# Altium schematic symbol library SOT.SchLib: 34 symbols
Pins are listed as number, name and electrical type; pins without a type are passive.

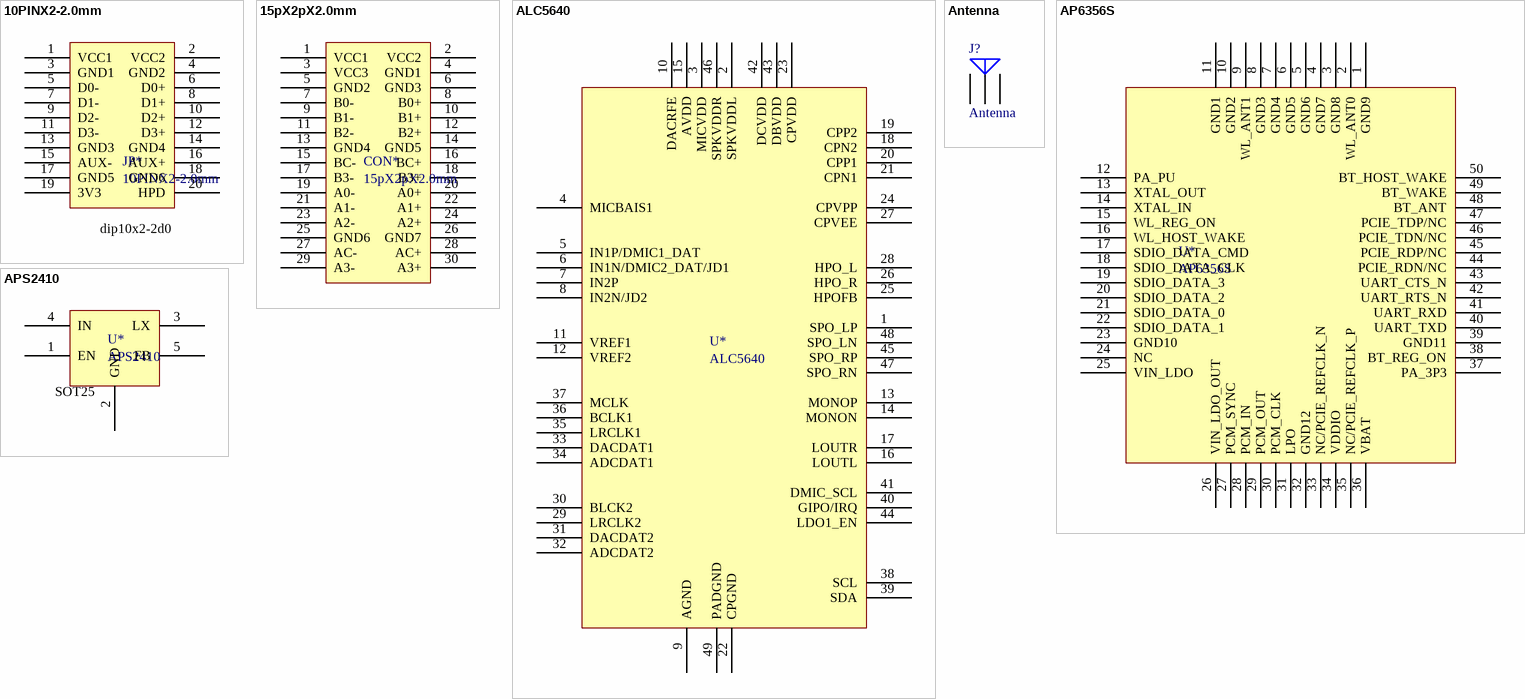
[diagram p0: symbols 10PINX2-2.0mm to APS2410]

## 10PINX2-2.0mm
designator JP*
pins: 1 VCC1, 2 VCC2, 3 GND1, 4 GND2, 5 D0-, 6 D0+, 7 D1-, 8 D1+, 9 D2-, 10 D2+, 11 D3-, 12 D3+, 13 GND3, 14 GND4, 15 AUX-, 16 AUX+, 17 GND5, 18 GND6, 19 3V3, 20 HPD
text: dip10x2-2d0

## 15pX2pX2.0mm
designator CON*
pins: 1 VCC1, 2 VCC2, 3 VCC3, 4 GND1, 5 GND2, 6 GND3, 7 B0-, 8 B0+, 9 B1-, 10 B1+, 11 B2-, 12 B2+, 13 GND4, 14 GND5, 15 BC-, 16 BC+, 17 B3-, 18 B3+, 19 A0-, 20 A0+, 21 A1-, 22 A1+, 23 A2-, 24 A2+, 25 GND6, 26 GND7, 27 AC-, 28 AC+, 29 A3-, 30 A3+

## ALC5640
designator U*
pins: 1 SPO_LP, 2 SPKVDDL, 3 MICVDD, 4 MICBAIS1, 5 IN1P/DMIC1_DAT, 6 IN1N/DMIC2_DAT/JD1, 7 IN2P, 8 IN2N/JD2, 9 AGND, 10 DACRFE, 11 VREF1, 12 VREF2, 13 MONOP, 14 MONON, 15 AVDD, 16 LOUTL, 17 LOUTR, 18 CPN2, 19 CPP2, 20 CPP1, 21 CPN1, 22 CPGND, 23 CPVDD, 24 CPVPP, 25 HPOFB, 26 HPO_R, 27 CPVEE, 28 HPO_L, 29 LRCLK2, 30 BLCK2, 31 DACDAT2, 32 ADCDAT2, 33 DACDAT1, 34 ADCDAT1, 35 LRCLK1, 36 BCLK1, 37 MCLK, 38 SCL, 39 SDA, 40 GIPO/IRQ, 41 DMIC_SCL, 42 DCVDD, 43 DBVDD, 44 LDO1_EN, 45 SPO_RP, 46 SPKVDDR, 47 SPO_RN, 48 SPO_LN, 49 PADGND
1 alternate drawing of the same symbol

## Antenna
designator J?
Generic Antenna; Published: 24-Mar-1999; LatestRevisionDate: 17-Jul-2002; LatestRevisionNote: Re-released for DXP Platform.; PackageReference: PIN1; Publisher: Altium Limited
footprint PIN1 (Generic Antenna; 1 Lead)
pins: 1 A, 2, 3

## AP6356S
designator U*
pins: 1 GND9, 2 WL_ANT0, 3 GND8, 4 GND7, 5 GND6, 6 GND5, 7 GND4, 8 GND3, 9 WL_ANT1, 10 GND2, 11 GND1, 12 PA_PU, 13 XTAL_OUT, 14 XTAL_IN, 15 WL_REG_ON, 16 WL_HOST_WAKE, 17 SDIO_DATA_CMD, 18 SDIO_DATA_CLK, 19 SDIO_DATA_3, 20 SDIO_DATA_2, 21 SDIO_DATA_0, 22 SDIO_DATA_1, 23 GND10, 24 NC, 25 VIN_LDO, 26 VIN_LDO_OUT, 27 PCM_SYNC, 28 PCM_IN, 29 PCM_OUT, 30 PCM_CLK, 31 LPO, 32 GND12, 33 NC/PCIE_REFCLK_N, 34 VDDIO, 35 NC/PCIE_REFCLK_P, 36 VBAT, 37 PA_3P3, 38 BT_REG_ON, 39 GND11, 40 UART_TXD, 41 UART_RXD, 42 UART_RTS_N, 43 UART_CTS_N, 44 PCIE_RDN/NC, 45 PCIE_RDP/NC, 46 PCIE_TDN/NC, 47 PCIE_TDP/NC, 48 BT_ANT, 49 BT_WAKE, 50 BT_HOST_WAKE

## APS2410
designator U*  Package: SOT25
pins: 1 EN, 2 GND, 3 LX, 4 IN, 5 FB

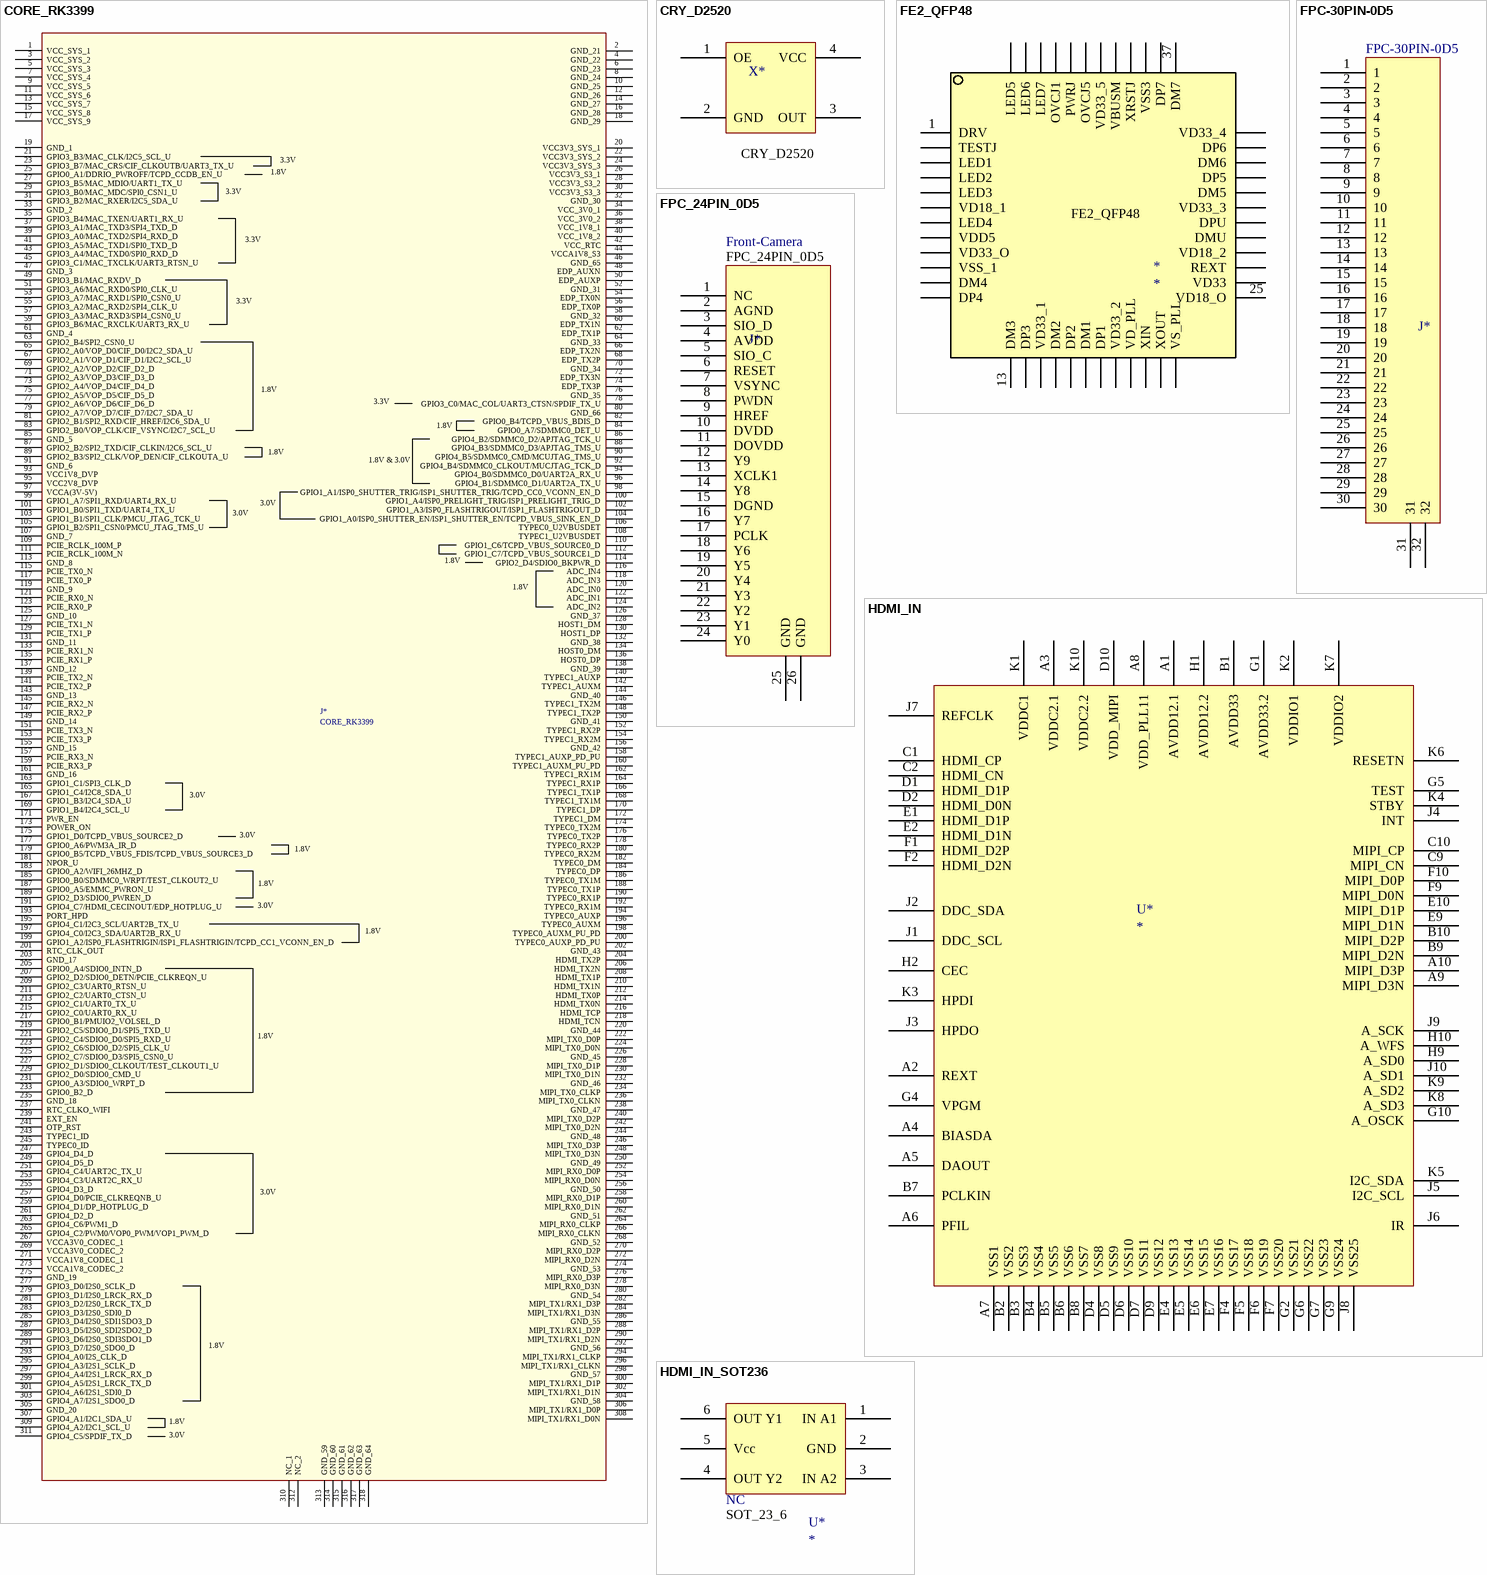
[diagram p1: symbols CORE_RK3399 to HDMI_IN_SOT236]

## CORE_RK3399
designator J*
Package: AS0B821-S78B-7H_
pins: 1 VCC_SYS_1, 2 GND_21, 3 VCC_SYS_2, 4 GND_22, 5 VCC_SYS_3, 6 GND_23, 7 VCC_SYS_4, 8 GND_24, 9 VCC_SYS_5, 10 GND_25, 11 VCC_SYS_6, 12 GND_26, 13 VCC_SYS_7, 14 GND_27, 15 VCC_SYS_8, 16 GND_28, 17 VCC_SYS_9, 18 GND_29, 19 GND_1, 20 VCC3V3_SYS_1, 21 GPIO3_B3/MAC_CLK/I2C5_SCL_U, 22 VCC3V3_SYS_2, 23 GPIO3_B7/MAC_CRS/CIF_CLKOUTB/UART3_TX_U, 24 VCC3V3_SYS_3, 25 GPIO0_A1/DDRIO_PWROFF/TCPD_CCDB_EN_U, 26 VCC3V3_S3_1, 27 GPIO3_B5/MAC_MDIO/UART1_TX_U, 28 VCC3V3_S3_2, 29 GPIO3_B0/MAC_MDC/SPI0_CSN1_U, 30 VCC3V3_S3_3, 31 GPIO3_B2/MAC_RXER/I2C5_SDA_U, 32 GND_30, 33 GND_2, 34 VCC_3V0_1, 35 GPIO3_B4/MAC_TXEN/UART1_RX_U, 36 VCC_3V0_2, 37 GPIO3_A1/MAC_TXD3/SPI4_TXD_D, 38 VCC_1V8_1, 39 GPIO3_A0/MAC_TXD2/SPI4_RXD_D, 40 VCC_1V8_2, 41 GPIO3_A5/MAC_TXD1/SPI0_TXD_D, 42 VCC_RTC, 43 GPIO3_A4/MAC_TXD0/SPI0_RXD_D, 44 VCCA1V8_S3, 45 GPIO3_C1/MAC_TXCLK/UART3_RTSN_U, 46 GND_65, 47 GND_3, 48 EDP_AUXN, 49 GPIO3_B1/MAC_RXDV_D, 50 EDP_AUXP, 51 GPIO3_A6/MAC_RXD0/SPI0_CLK_U, 52 GND_31, 53 GPIO3_A7/MAC_RXD1/SPI0_CSN0_U, 54 EDP_TX0N, 55 GPIO3_A2/MAC_RXD2/SPI4_CLK_U, 56 EDP_TX0P, 57 GPIO3_A3/MAC_RXD3/SPI4_CSN0_U, 58 GND_32, 59 GPIO3_B6/MAC_RXCLK/UART3_RX_U, 60 EDP_TX1N, 61 GND_4, 62 EDP_TX1P, 63 GPIO2_B4/SPI2_CSN0_U, 64 GND_33, 65 GPIO2_A0/VOP_D0/CIF_D0/I2C2_SDA_U, 66 EDP_TX2N, 67 GPIO2_A1/VOP_D1/CIF_D1/I2C2_SCL_U, 68 EDP_TX2P, 69 GPIO2_A2/VOP_D2/CIF_D2_D, 70 GND_34, 71 GPIO2_A3/VOP_D3/CIF_D3_D, 72 EDP_TX3N, 73 GPIO2_A4/VOP_D4/CIF_D4_D, 74 EDP_TX3P, 75 GPIO2_A5/VOP_D5/CIF_D5_D, 76 GND_35, 77 GPIO2_A6/VOP_D6/CIF_D6_D, 78 GPIO3_C0/MAC_COL/UART3_CTSN/SPDIF_TX_U, 79 GPIO2_A7/VOP_D7/CIF_D7/I2C7_SDA_U, 80 GND_66, 81 GPIO2_B1/SPI2_RXD/CIF_HREF/I2C6_SDA_U, 82 GPIO0_B4/TCPD_VBUS_BDIS_D, 83 GPIO2_B0/VOP_CLK/CIF_VSYNC/I2C7_SCL_U, 84 GPIO0_A7/SDMMC0_DET_U, 85 GND_5, 86 GPIO4_B2/SDMMC0_D2/APJTAG_TCK_U, 87 GPIO2_B2/SPI2_TXD/CIF_CLKIN/I2C6_SCL_U, 88 GPIO4_B3/SDMMC0_D3/APJTAG_TMS_U, 89 GPIO2_B3/SPI2_CLK/VOP_DEN/CIF_CLKOUTA_U, 90 GPIO4_B5/SDMMC0_CMD/MCUJTAG_TMS_U, 91 GND_6, 92 GPIO4_B4/SDMMC0_CLKOUT/MUCJTAG_TCK_D, 93 VCC1V8_DVP, 94 GPIO4_B0/SDMMC0_D0/UART2A_RX_U, 95 VCC2V8_DVP, 96 GPIO4_B1/SDMMC0_D1/UART2A_TX_U, 97 VCCA(3V-5V), 98 GPIO1_A1/ISP0_SHUTTER_TRIG/ISP1_SHUTTER_TRIG/TCPD_CC0_VCONN_EN_D, 99 GPIO1_A7/SPI1_RXD/UART4_RX_U, 100 GPIO1_A4/ISP0_PRELIGHT_TRIG/ISP1_PRELIGHT_TRIG_D, 101 GPIO1_B0/SPI1_TXD/UART4_TX_U, 102 GPIO1_A3/ISP0_FLASHTRIGOUT/ISP1_FLASHTRIGOUT_D, 103 GPIO1_B1/SPI1_CLK/PMCU_JTAG_TCK_U, 104 GPIO1_A0/ISP0_SHUTTER_EN/ISP1_SHUTTER_EN/TCPD_VBUS_SINK_EN_D, 105 GPIO1_B2/SPI1_CSN0/PMCU_JTAG_TMS_U, 106 TYPEC0_U2VBUSDET, 107 GND_7, 108 TYPEC1_U2VBUSDET, 109 PCIE_RCLK_100M_P, 110 GPIO1_C6/TCPD_VBUS_SOURCE0_D, 111 PCIE_RCLK_100M_N, 112 GPIO1_C7/TCPD_VBUS_SOURCE1_D, 113 GND_8, 114 GPIO2_D4/SDIO0_BKPWR_D, 115 PCIE_TX0_N, 116 ADC_IN4, 117 PCIE_TX0_P, 118 ADC_IN3, 119 GND_9, 120 ADC_IN0 (oe), 121 PCIE_RX0_N, 122 ADC_IN1, 123 PCIE_RX0_P, 124 ADC_IN2, 125 GND_10, 126 GND_37, 127 PCIE_TX1_N, 128 HOST1_DM, 129 PCIE_TX1_P, 130 HOST1_DP, 131 GND_11, 132 GND_38, 133 PCIE_RX1_N, 134 HOST0_DM, 135 PCIE_RX1_P, 136 HOST0_DP, 137 GND_12, 138 GND_39, 139 PCIE_TX2_N, 140 TYPEC1_AUXP, 141 PCIE_TX2_P, 142 TYPEC1_AUXM, 143 GND_13, 144 GND_40, 145 PCIE_RX2_N, 146 TYPEC1_TX2M, 147 PCIE_RX2_P, 148 TYPEC1_TX2P, 149 GND_14, 150 GND_41, 151 PCIE_TX3_N, 152 TYPEC1_RX2P, 153 PCIE_TX3_P, 154 TYPEC1_RX2M, 155 GND_15, 156 GND_42, 157 PCIE_RX3_N, 158 TYPEC1_AUXP_PD_PU, 159 PCIE_RX3_P, 160 TYPEC1_AUXM_PU_PD, 161 GND_16, 162 TYPEC1_RX1M, 163 GPIO1_C1/SPI3_CLK_D, 164 TYPEC1_RX1P, 165 GPIO1_C4/I2C8_SDA_U, 166 TYPEC1_TX1P, 167 GPIO1_B3/I2C4_SDA_U, 168 TYPEC1_TX1M, 169 GPIO1_B4/I2C4_SCL_U, 170 TYPEC1_DP, 171 PWR_EN, 172 TYPEC1_DM, 173 POWER_ON, 174 TYPEC0_TX2M, 175 GPIO1_D0/TCPD_VBUS_SOURCE2_D, 176 TYPEC0_TX2P, 177 GPIO0_A6/PWM3A_IR_D, 178 TYPEC0_RX2P, 179 GPIO0_B5/TCPD_VBUS_FDIS/TCPD_VBUS_SOURCE3_D, 180 TYPEC0_RX2M, 181 NPOR_U, 182 TYPEC0_DM, 183 GPIO0_A2/WIFI_26MHZ_D, 184 TYPEC0_DP, 185 GPIO0_B0/SDMMC0_WRPT/TEST_CLKOUT2_U, 186 TYPEC0_TX1M, 187 GPIO0_A5/EMMC_PWRON_U, 188 TYPEC0_TX1P, 189 GPIO2_D3/SDIO0_PWREN_D, 190 TYPEC0_RX1P, 191 GPIO4_C7/HDMI_CECINOUT/EDP_HOTPLUG_U, 192 TYPEC0_RX1M, 193 PORT_HPD (oe), 194 TYPEC0_AUXP, 195 GPIO4_C1/I2C3_SCL/UART2B_TX_U, 196 TYPEC0_AUXM, 197 GPIO4_C0/I2C3_SDA/UART2B_RX_U, 198 TYPEC0_AUXM_PU_PD, 199 GPIO1_A2/ISP0_FLASHTRIGIN/ISP1_FLASHTRIGIN/TCPD_CC1_VCONN_EN_D, 200 TYPEC0_AUXP_PD_PU, 201 RTC_CLK_OUT, 202 GND_43, 203 GND_17, 204 HDMI_TX2P, 205 GPIO0_A4/SDIO0_INTN_D, 206 HDMI_TX2N, 207 GPIO2_D2/SDIO0_DETN/PCIE_CLKREQN_U, 208 HDMI_TX1P, 209 GPIO2_C3/UART0_RTSN_U, 210 HDMI_TX1N, 211 GPIO2_C2/UART0_CTSN_U, 212 HDMI_TX0P, 213 GPIO2_C1/UART0_TX_U, 214 HDMI_TX0N, 215 GPIO2_C0/UART0_RX_U, 216 HDMI_TCP, 217 GPIO0_B1/PMUIO2_VOLSEL_D, 218 HDMI_TCN, 219 GPIO2_C5/SDIO0_D1/SPI5_TXD_U, 220 GND_44, 221 GPIO2_C4/SDIO0_D0/SPI5_RXD_U, 222 MIPI_TX0_D0P, 223 GPIO2_C6/SDIO0_D2/SPI5_CLK_U, 224 MIPI_TX0_D0N, 225 GPIO2_C7/SDIO0_D3/SPI5_CSN0_U, 226 GND_45, 227 GPIO2_D1/SDIO0_CLKOUT/TEST_CLKOUT1_U, 228 MIPI_TX0_D1P, 229 GPIO2_D0/SDIO0_CMD_U, 230 MIPI_TX0_D1N, 231 GPIO0_A3/SDIO0_WRPT_D, 232 GND_46, 233 GPIO0_B2_D, 234 MIPI_TX0_CLKP, 235 GND_18, 236 MIPI_TX0_CLKN, 237 RTC_CLKO_WIFI, 238 GND_47, 239 EXT_EN, 240 MIPI_TX0_D2P, 241 OTP_RST, 242 MIPI_TX0_D2N, 243 TYPEC1_ID, 244 GND_48, 245 TYPEC0_ID, 246 MIPI_TX0_D3P, 247 GPIO4_D4_D, 248 MIPI_TX0_D3N, 249 GPIO4_D5_D, 250 GND_49, 251 GPIO4_C4/UART2C_TX_U, 252 MIPI_RX0_D0P, 253 GPIO4_C3/UART2C_RX_U, 254 MIPI_RX0_D0N, 255 GPIO4_D3_D, 256 GND_50, 257 GPIO4_D0/PCIE_CLKREQNB_U, 258 MIPI_RX0_D1P, 259 GPIO4_D1/DP_HOTPLUG_D, 260 MIPI_RX0_D1N, 261 GPIO4_D2_D, 262 GND_51, 263 GPIO4_C6/PWM1_D, 264 MIPI_RX0_CLKP, 265 GPIO4_C2/PWM0/VOP0_PWM/VOP1_PWM_D, 266 MIPI_RX0_CLKN, 267 VCCA3V0_CODEC_1, 268 GND_52, 269 VCCA3V0_CODEC_2, 270 MIPI_RX0_D2P, 271 VCCA1V8_CODEC_1, 272 MIPI_RX0_D2N, 273 VCCA1V8_CODEC_2, 274 GND_53, 275 GND_19, 276 MIPI_RX0_D3P, 277 GPIO3_D0/I2S0_SCLK_D, 278 MIPI_RX0_D3N, 279 GPIO3_D1/I2S0_LRCK_RX_D, 280 GND_54, 281 GPIO3_D2/I2S0_LRCK_TX_D, 282 MIPI_TX1/RX1_D3P, 283 GPIO3_D3/I2S0_SDI0_D, 284 MIPI_TX1/RX1_D3N, 285 GPIO3_D4/I2S0_SDI1SDO3_D, 286 GND_55, 287 GPIO3_D5/I2S0_SDI2SDO2_D, 288 MIPI_TX1/RX1_D2P, 289 GPIO3_D6/I2S0_SDI3SDO1_D, 290 MIPI_TX1/RX1_D2N, 291 GPIO3_D7/I2S0_SDO0_D, 292 GND_56, 293 GPIO4_A0/I2S_CLK_D, 294 MIPI_TX1/RX1_CLKP, 295 GPIO4_A3/I2S1_SCLK_D, 296 MIPI_TX1/RX1_CLKN, 297 GPIO4_A4/I2S1_LRCK_RX_D, 298 GND_57, 299 GPIO4_A5/I2S1_LRCK_TX_D, 300 MIPI_TX1/RX1_D1P, 301 GPIO4_A6/I2S1_SDI0_D, 302 MIPI_TX1/RX1_D1N, 303 GPIO4_A7/I2S1_SDO0_D, 304 GND_58, 305 GND_20, 306 MIPI_TX1/RX1_D0P, 307 GPIO4_A1/I2C1_SDA_U, 308 MIPI_TX1/RX1_D0N, 309 GPIO4_A2/I2C1_SCL_U, 310 NC_1, 311 GPIO4_C5/SPDIF_TX_D, 312 NC_2, 313 GND_59, 314 GND_60, 315 GND_61, 316 GND_62, 317 GND_63, 318 GND_64
text: 3.3V; 1.8V; 1.8V & 3.0V; 3.0V

## CRY_D2520
designator X*  (value not drawn)
pins: 1 OE, 2 GND, 3 OUT, 4 VCC

## FE2_QFP48
designator *
pins: 1 DRV, 2 TESTJ, 3 LED1, 4 LED2, 5 LED3, 6 VD18_1, 7 LED4, 8 VDD5, 9 VD33_O, 10 VSS_1, 11 DM4, 12 DP4, 13 DM3, 14 DP3, 15 VD33_1, 16 DM2, 17 DP2, 18 DM1, 19 DP1, 20 VD33_2, 21 VD_PLL, 22 XIN, 23 XOUT, 24 VS_PLL, 25 VD18_O, 26 VD33, 27 REXT, 28 VD18_2, 29 DMU, 30 DPU, 31 VD33_3, 32 DM5, 33 DP5, 34 DM6, 35 DP6, 36 VD33_4, 37 DM7, 38 DP7, 39 VSS3, 40 XRSTJ, 41 VBUSM, 42 VD33_5, 43 OVCJ5, 44 PWRJ, 45 OVCJ1, 46 LED7, 47 LED6, 48 LED5

## FPC-30PIN-0D5
designator J*  (value not drawn)
pins: 1, 2, 3, 4, 5, 6, 7, 8, 9, 10, 11, 12, 13, 14, 15, 16, 17, 18, 19, 20, 21, 22, 23, 24, 25, 26, 27, 28, 29, 30, 31, 32

## FPC_24PIN_0D5
designator J*  (value not drawn)
pins: 1 NC, 2 AGND, 3 SIO_D, 4 AVDD, 5 SIO_C, 6 RESET, 7 VSYNC, 8 PWDN, 9 HREF, 10 DVDD, 11 DOVDD, 12 Y9, 13 XCLK1, 14 Y8, 15 DGND, 16 Y7, 17 PCLK, 18 Y6, 19 Y5, 20 Y4, 21 Y3, 22 Y2, 23 Y1, 24 Y0, 25 GND, 26 GND
text: Front-Camera

## HDMI_IN
designator U*
Value: *
pins: A1 AVDD12.1, A2 REXT, A3 VDDC2.1, A4 BIASDA, A5 DAOUT, A6 PFIL, A7 VSS1, A8 VDD_PLL11, A9 MIPI_D3N, A10 MIPI_D3P, B1 AVDD33, B2 VSS2, B3 VSS3, B4 VSS4, B5 VSS5, B6 VSS6, B7 PCLKIN, B8 VSS7, B9 MIPI_D2N, B10 MIPI_D2P, C1 HDMI_CP, C2 HDMI_CN, C9 MIPI_CN, C10 MIPI_CP, D1 HDMI_D1P, D2 HDMI_D0N, D4 VSS8, D5 VSS9, D6 VSS10, D7 VSS11, D9 VSS12, D10 VDD_MIPI, E1 HDMI_D1P, E2 HDMI_D1N, E4 VSS13, E5 VSS14, E6 VSS15, E7 VSS16, E9 MIPI_D1N, E10 MIPI_D1P, F1 HDMI_D2P, F2 HDMI_D2N, F4 VSS17, F5 VSS18, F6 VSS19, F7 VSS20, F9 MIPI_D0N, F10 MIPI_D0P, G1 AVDD33.2, G2 VSS21, G4 VPGM, G5 TEST, G6 VSS22, G7 VSS23, G9 VSS24, G10 A_OSCK, H1 AVDD12.2, H2 CEC, H9 A_SD0, H10 A_WFS, J1 DDC_SCL, J2 DDC_SDA, J3 HPDO, J4 INT, J5 I2C_SCL, J6 IR, J7 REFCLK, J8 VSS25, J9 A_SCK, J10 A_SD1, K1 VDDC1, K2 VDDIO1, K3 HPDI, K4 STBY, K5 I2C_SDA, K6 RESETN, K7 VDDIO2, K8 A_SD3, K9 A_SD2, K10 VDDC2.2

## HDMI_IN_SOT236
designator U*  value NC  Package: SOT_23_6
pins: 1 IN A1, 2 GND, 3 IN A2, 4 OUT Y2, 5 Vcc, 6 OUT Y1

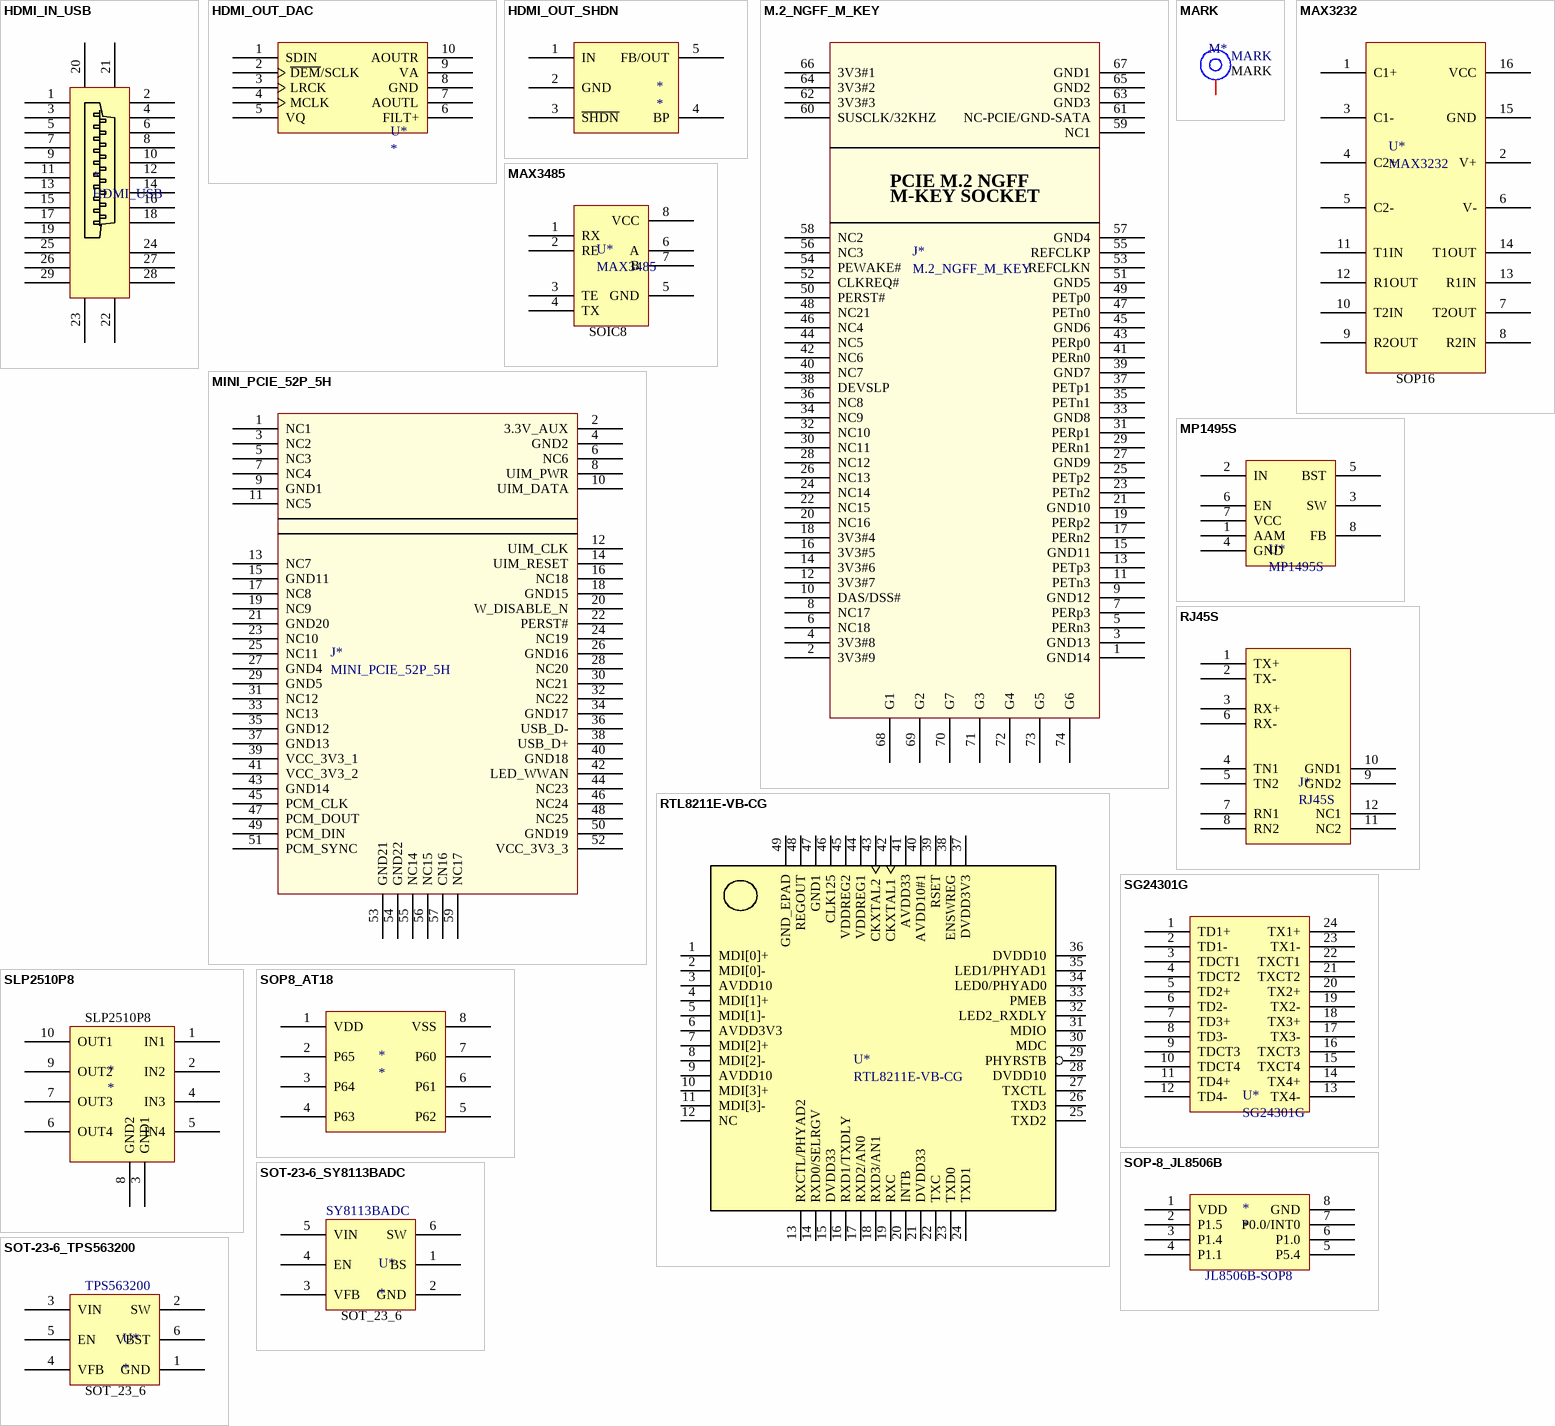
[diagram p2: symbols HDMI_IN_USB to SOT-23-6_TPS563200]

## HDMI_IN_USB
designator *, comment HDMI_USB
Value: NC
pins: 1, 2, 3, 4, 5, 6, 7, 8, 9, 10, 11, 12, 13, 14, 15, 16, 17, 18, 19, 20, 21, 22, 23, 24, 25, 26, 27, 28, 29

## HDMI_OUT_DAC
designator U*
pins: 1 SDIN, 2 ~{DEM}/SCLK, 3 LRCK, 4 MCLK, 5 VQ, 6 FILT+, 7 AOUTL, 8 GND, 9 VA, 10 AOUTR

## HDMI_OUT_SHDN
designator *
pins: 1 IN, 2 GND, 3 ~{SHDN}, 4 BP, 5 FB/OUT

## M.2_NGFF_M_KEY
designator J*
pins: 1 GND14, 2 3V3#9, 3 GND13, 4 3V3#8, 5 PERn3, 6 NC18, 7 PERp3, 8 NC17, 9 GND12, 10 DAS/DSS#, 11 PETn3, 12 3V3#7, 13 PETp3, 14 3V3#6, 15 GND11, 16 3V3#5, 17 PERn2, 18 3V3#4, 19 PERp2, 20 NC16, 21 GND10, 22 NC15, 23 PETn2, 24 NC14, 25 PETp2, 26 NC13, 27 GND9, 28 NC12, 29 PERn1, 30 NC11, 31 PERp1, 32 NC10, 33 GND8, 34 NC9, 35 PETn1, 36 NC8, 37 PETp1, 38 DEVSLP, 39 GND7, 40 NC7, 41 PERn0, 42 NC6, 43 PERp0, 44 NC5, 45 GND6, 46 NC4, 47 PETn0, 48 NC21, 49 PETp0, 50 PERST#, 51 GND5, 52 CLKREQ#, 53 REFCLKN, 54 PEWAKE#, 55 REFCLKP, 56 NC3, 57 GND4, 58 NC2, 59 NC1, 60 SUSCLK/32KHZ, 61 NC-PCIE/GND-SATA, 62 3V3#3, 63 GND3, 64 3V3#2, 65 GND2, 66 3V3#1, 67 GND1, 68 G1, 69 G2, 70 G7, 71 G3, 72 G4, 73 G5, 74 G6
text: PCIE M.2 NGFF; M-KEY SOCKET

## MARK
designator M*  (value not drawn)
pins: 52

## MAX3232
designator U*  Package: SOP16
pins: 1 C1+, 2 V+, 3 C1-, 4 C2+, 5 C2-, 6 V-, 7 T2OUT, 8 R2IN, 9 R2OUT, 10 T2IN, 11 T1IN, 12 R1OUT, 13 R1IN, 14 T1OUT, 15 GND, 16 VCC

## MAX3485
designator U*  Package: SOIC8
pins: 1 RX, 2 RE, 3 TE, 4 TX, 5 GND, 6 A, 7 B, 8 VCC

## MINI_PCIE_52P_5H
designator J*
pins: 1 NC1, 2 3.3V_AUX, 3 NC2, 4 GND2, 5 NC3, 6 NC6, 7 NC4, 8 UIM_PWR, 9 GND1, 10 UIM_DATA, 11 NC5, 12 UIM_CLK, 13 NC7, 14 UIM_RESET, 15 GND11, 16 NC18, 17 NC8, 18 GND15, 19 NC9, 20 W_DISABLE_N, 21 GND20, 22 PERST#, 23 NC10, 24 NC19, 25 NC11, 26 GND16, 27 GND4, 28 NC20, 29 GND5, 30 NC21, 31 NC12, 32 NC22, 33 NC13, 34 GND17, 35 GND12, 36 USB_D-, 37 GND13, 38 USB_D+, 39 VCC_3V3_1, 40 GND18, 41 VCC_3V3_2, 42 LED_WWAN, 43 GND14, 44 NC23, 45 PCM_CLK, 46 NC24, 47 PCM_DOUT, 48 NC25, 49 PCM_DIN, 50 GND19, 51 PCM_SYNC, 52 VCC_3V3_3, 53 GND21, 54 GND22, 55 NC14, 56 NC15, 57 CN16, 59 NC17

## MP1495S
designator U*
pins: 1 AAM, 2 IN, 3 SW, 4 GND, 5 BST, 6 EN, 7 VCC, 8 FB

## RJ45S
designator J*
pins: 1 TX+, 2 TX-, 3 RX+, 4 TN1, 5 TN2, 6 RX-, 7 RN1, 8 RN2, 9 GND2, 10 GND1, 11 NC2, 12 NC1

## RTL8211E-VB-CG
designator U*
pins: 1 MDI[0]+, 2 MDI[0]-, 3 AVDD10, 4 MDI[1]+, 5 MDI[1]-, 6 AVDD3V3, 7 MDI[2]+, 8 MDI[2]-, 9 AVDD10, 10 MDI[3]+, 11 MDI[3]-, 12 NC, 13 RXCTL/PHYAD2, 14 RXD0/SELRGV, 15 DVDD33, 16 RXD1/TXDLY, 17 RXD2/AN0, 18 RXD3/AN1, 19 RXC, 20 INTB, 21 DVDD33, 22 TXC, 23 TXD0, 24 TXD1, 25 TXD2, 26 TXD3, 27 TXCTL, 28 DVDD10, 29 PHYRSTB, 30 MDC, 31 MDIO, 32 LED2_RXDLY, 33 PMEB, 34 LED0/PHYAD0, 35 LED1/PHYAD1, 36 DVDD10, 37 DVDD3V3, 38 ENSWREG, 39 RSET, 40 AVDD10#1, 41 AVDD33, 42 CKXTAL1, 43 CKXTAL2, 44 VDDREG1, 45 VDDREG2, 46 CLK125, 47 GND1, 48 REGOUT, 49 GND_EPAD

## SG24301G
designator U*
pins: 1 TD1+, 2 TD1-, 3 TDCT1, 4 TDCT2, 5 TD2+, 6 TD2-, 7 TD3+, 8 TD3-, 9 TDCT3, 10 TDCT4, 11 TD4+, 12 TD4-, 13 TX4-, 14 TX4+, 15 TXCT4, 16 TXCT3, 17 TX3-, 18 TX3+, 19 TX2-, 20 TX2+, 21 TXCT2, 22 TXCT1, 23 TX1-, 24 TX1+

## SLP2510P8
designator *
pins: 1 IN1, 2 IN2, 3 GND1, 4 IN3, 5 IN4, 6 OUT4, 7 OUT3, 8 GND2, 9 OUT2, 10 OUT1

## SOP8_AT18
designator *
pins: 1 VDD, 2 P65, 3 P64, 4 P63, 5 P62, 6 P61, 7 P60, 8 VSS

## SOP-8_JL8506B
designator *
pins: 1 VDD, 2 P1.5, 3 P1.4, 4 P1.1, 5 P5.4, 6 P1.0, 7 P0.0/INT0, 8 GND
text: JL8506B-SOP8

## SOT-23-6_SY8113BADC
designator U*
Switching Voltage Regulators 17 Vin,3A Sync SD Reg; Manufacturer: Texas Instruments; Manufacturer Part Number: TPS563200DDCR; Operating Supply Current: 190 uA; Supplier 1: Mouser; RoHS: RoHS Compliant; Category: Switching Voltage Regulators; Stock 1: 18637; Pricing 1: 1=1.44, 10=1.23, 100=0.947, 500=0.836, 1000=0.660, 3000=0.586, 9000=0.564 (USD); Height: 1.1 mm; Length: 2.9 mm; Operating Temperature Range: - 40 C to + 125 C; Package / Case: SOT-23-Thin-6; Packaging: Cut Tape; Series: TPS563200; Width: 1.6 mm; Brand: Texas Instruments; Mounting Style: SMD/SMT; Maximum Operating Temperature: + 125 C; Minimum Operating Temperature: - 40 C; Product Type: Switching Voltage Regulators; Standard Pack Qty: 3000; Subcategory: PMIC - Power Management ICs; RoHS - Mouser: Y; Minimum Order Quantity: 1; Reeling: True
pins: 1 BS, 2 GND, 3 VFB, 4 EN, 5 VIN, 6 SW
text: SY8113BADC; SOT_23_6

## SOT-23-6_TPS563200
designator U*
Switching Voltage Regulators 17 Vin,3A Sync SD Reg; Manufacturer: Texas Instruments; Manufacturer Part Number: TPS563200DDCR; Operating Supply Current: 190 uA; Supplier 1: Mouser; RoHS: RoHS Compliant; Category: Switching Voltage Regulators; Stock 1: 18637; Pricing 1: 1=1.44, 10=1.23, 100=0.947, 500=0.836, 1000=0.660, 3000=0.586, 9000=0.564 (USD); Height: 1.1 mm; Length: 2.9 mm; Operating Temperature Range: - 40 C to + 125 C; Package / Case: SOT-23-Thin-6; Packaging: Cut Tape; Series: TPS563200; Width: 1.6 mm; Brand: Texas Instruments; Mounting Style: SMD/SMT; Maximum Operating Temperature: + 125 C; Minimum Operating Temperature: - 40 C; Product Type: Switching Voltage Regulators; Standard Pack Qty: 3000; Subcategory: PMIC - Power Management ICs; RoHS - Mouser: Y; Minimum Order Quantity: 1; Reeling: True
pins: 1 GND, 2 SW, 3 VIN, 4 VFB, 5 EN, 6 VBST
text: SOT_23_6

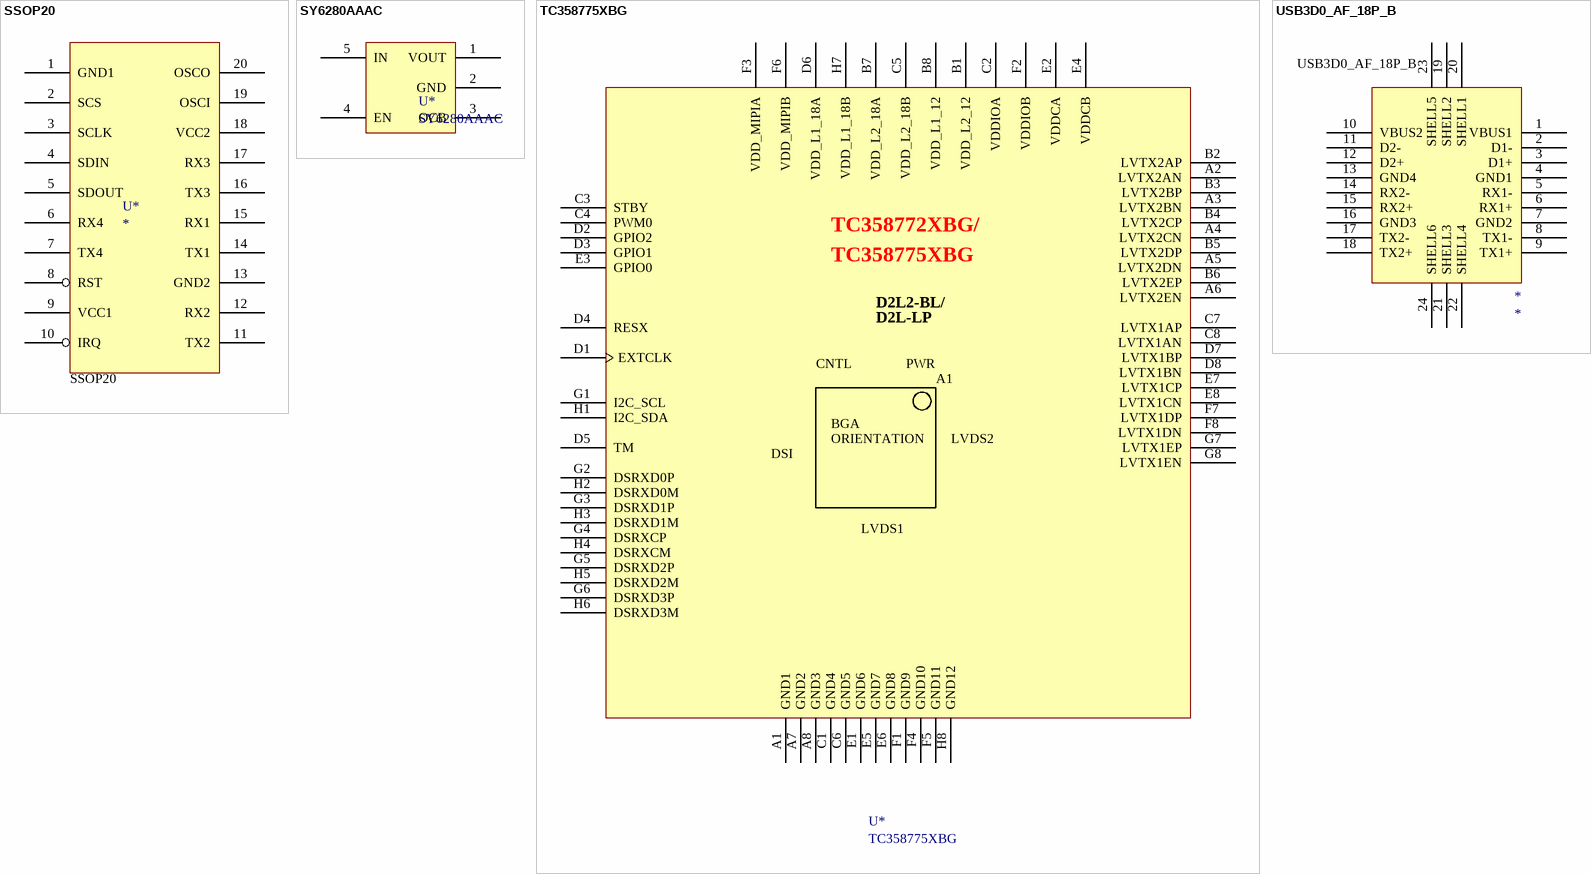
[diagram p3: symbols SSOP20 to USB3D0_AF_18P_B]

## SSOP20
designator U*  Package: SSOP20
pins: 1 GND1, 2 SCS, 3 SCLK, 4 SDIN, 5 SDOUT, 6 RX4, 7 TX4, 8 RST, 9 VCC1, 10 IRQ, 11 TX2, 12 RX2, 13 GND2, 14 TX1, 15 RX1, 16 TX3, 17 RX3, 18 VCC2, 19 OSCI, 20 OSCO

## SY6280AAAC
designator U*
pins: 1 VOUT, 2 GND, 3 OCB, 4 EN, 5 IN

## TC358775XBG
designator U*
pins: A1 GND1, A2 LVTX2AN, A3 LVTX2BN, A4 LVTX2CN, A5 LVTX2DN, A6 LVTX2EN, A7 GND2, A8 GND3, B1 VDD_L2_12, B2 LVTX2AP, B3 LVTX2BP, B4 LVTX2CP, B5 LVTX2DP, B6 LVTX2EP, B7 VDD_L2_18A, B8 VDD_L1_12, C1 GND4, C2 VDDIOA, C3 STBY, C4 PWM0, C5 VDD_L2_18B, C6 GND5, C7 LVTX1AP, C8 LVTX1AN, D1 EXTCLK, D2 GPIO2, D3 GPIO1, D4 RESX, D5 TM, D6 VDD_L1_18A, D7 LVTX1BP, D8 LVTX1BN, E1 GND6, E2 VDDCA, E3 GPIO0, E4 VDDCB, E5 GND7, E6 GND8, E7 LVTX1CP, E8 LVTX1CN, F1 GND9, F2 VDDIOB, F3 VDD_MIPIA, F4 GND10, F5 GND11, F6 VDD_MIPIB, F7 LVTX1DP, F8 LVTX1DN, G1 I2C_SCL, G2 DSRXD0P, G3 DSRXD1P, G4 DSRXCP, G5 DSRXD2P, G6 DSRXD3P, G7 LVTX1EP, G8 LVTX1EN, H1 I2C_SDA, H2 DSRXD0M, H3 DSRXD1M, H4 DSRXCM, H5 DSRXD2M, H6 DSRXD3M, H7 VDD_L1_18B, H8 GND12
text: TC358772XBG/; D2L2-BL/; D2L-LP; CNTL; PWR; BGA; ORIENTATION; LVDS2; DSI; LVDS1

## USB3D0_AF_18P_B
designator *
pins: 1 VBUS1, 2 D1-, 3 D1+, 4 GND1, 5 RX1-, 6 RX1+, 7 GND2, 8 TX1-, 9 TX1+, 10 VBUS2, 11 D2-, 12 D2+, 13 GND4, 14 RX2-, 15 RX2+, 16 GND3, 17 TX2-, 18 TX2+, 19 SHELL2, 20 SHELL1, 21 SHELL3, 22 SHELL4, 23 SHELL5, 24 SHELL6